# Altium footprint library A200424LPNR.PcbLib: 1 footprints
Each footprint in its own frame and in the unit in brackets; x right, y up, seen from the top. Pads: shape width x height; smd on the part's side, far side on the other; paste and mask are expansions set on the pad; w line width, h text height; cw(c..) or ccw(c..) is an arc to the next point about the centre after c.
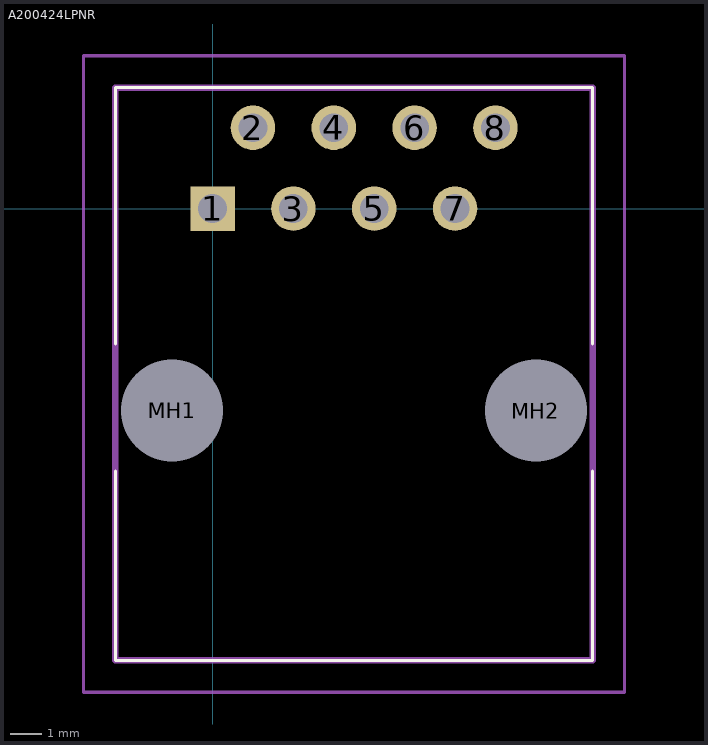
[diagram p0: the footprint, top view; thin cyan lines are the x and y axes]

## A200424LPNR [mm]
pads (10):
  rect 1.4x1.4 hole 0.9: 1(0,0)
  round 1.4 hole 0.9: 2(1.27,2.54) 3(2.54,0) 4(3.81,2.54) 5(5.08,0) 6(6.35,2.54) 7(7.62,0) 8(8.89,2.54)
  round 1.6 hole 3.2 unplated: MH1(-1.27,-6.35) MH2(10.16,-6.35)
Top Overlay:
  lines w0.1: -3.055,-14.2 11.945,-14.2 ; -3.055,-14.2 -3.055,-14.2 ; -3.055,-14.2 11.945,-14.2 ; -3.055,-14.2 -3.055,-14.2 ; -3.055,-14.2 -3.055,-8.25 ; -3.055,-14.2 -3.055,-8.25 ; -3.055,-8.25 -3.055,-8.25 ; -3.055,-4.25 -3.055,-4.25 ; -3.055,-4.25 -3.055,3.8 ; -3.055,-4.25 -3.055,3.8 ; -3.055,3.8 -3.055,3.8 ; -3.055,3.8 11.945,3.8 ; -3.055,3.8 11.945,3.8 ; -3.055,3.8 -3.055,3.8 ; 11.945,-14.2 11.945,-8.25 ; 11.945,-14.2 11.945,-14.2 ; 11.945,-14.2 11.945,-8.25 ; 11.945,-14.2 11.945,-14.2 ; 11.945,-8.25 11.945,-8.25 ; 11.945,-4.25 11.945,3.8 ; 11.945,-4.25 11.945,-4.25 ; 11.945,-4.25 11.945,3.8 ; 11.945,3.8 11.945,3.8 ; 11.945,3.8 11.945,3.8
Mechanical 15:
  lines w0.2: -3.055,-14.2 11.945,-14.2 11.945,3.8 -3.055,3.8 -3.055,-14.2
Mechanical 20:
  lines w0.1: -4.055,-15.2 12.945,-15.2 12.945,4.8 -4.055,4.8 -4.055,-15.2